# Altium schematic symbol library Emirhan's.SchLib: 66 symbols
Pins are listed as number, name and electrical type; pins without a type are passive.

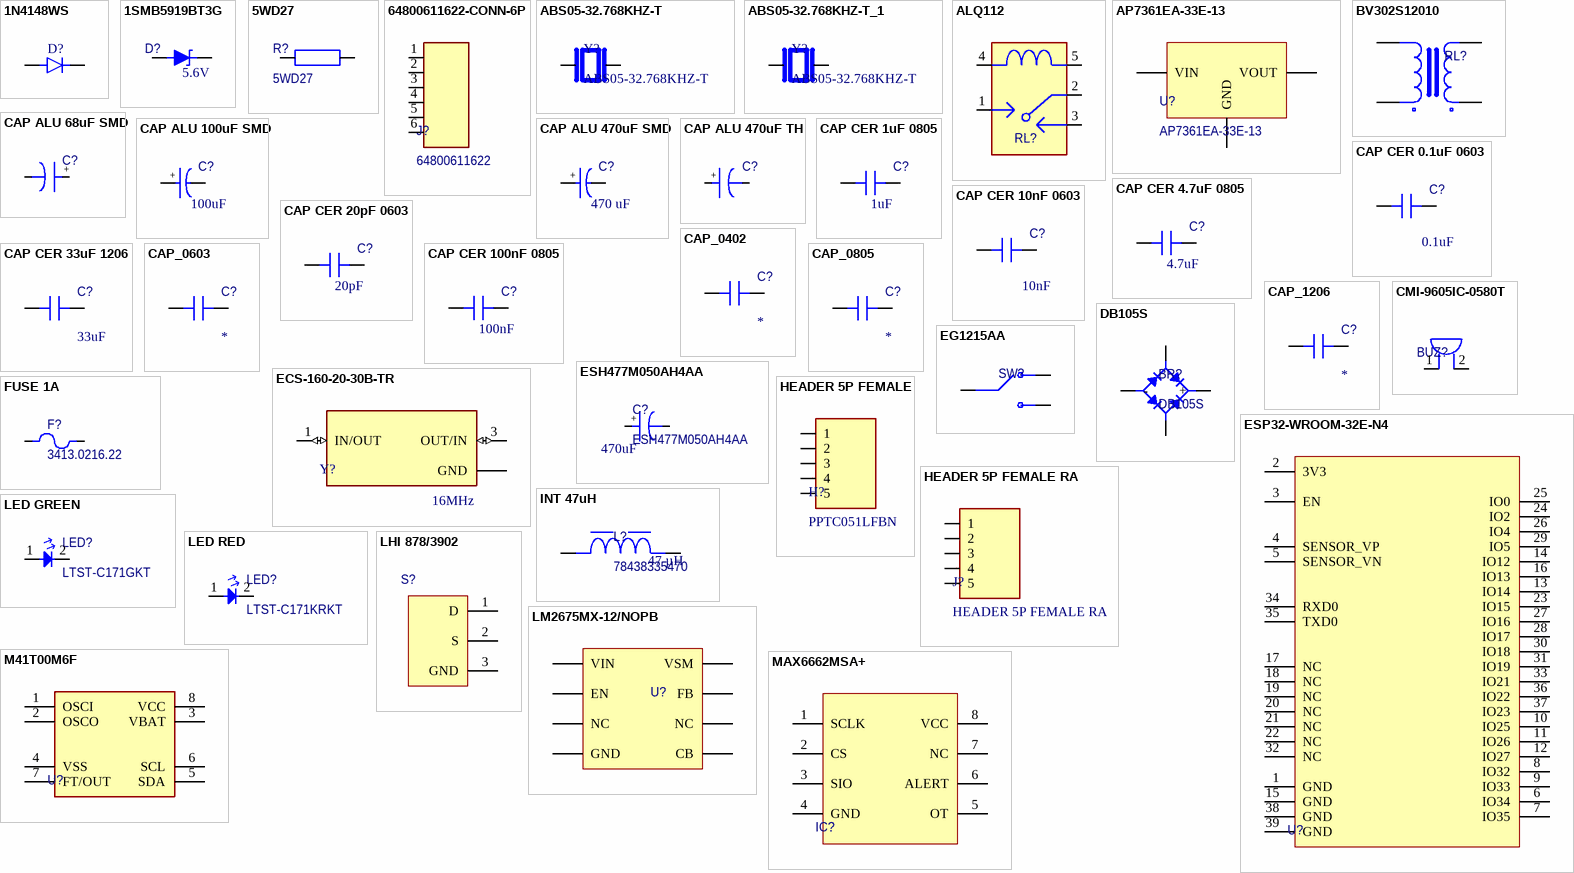
[diagram p0: symbols 1N4148WS to MAX6662MSA+]

## 1N4148WS
designator D?  (value not drawn)
DIODE STANDARD 75V 150MA SOD323F; Manufacturer: Diotec Semiconductor; Designed By: Emirhan Bozkurt; Supplier 1: DigiKey; Case Package: SOD-323F Diotec; Value: *; Supplier Part Number: 1N4148WSFSTR-ND; Check_prices: https://www.snapeda.com/parts/1N4148WS/Diotec/view-part/?ref=eda; Manufacturer Product Number: 1N4148WS
footprint 1N4148WS
pins: A, C

## 1SMB5919BT3G
designator D?  value 5.6V  (hidden comment: 1SMB5919BT3G)
DIODE ZENER 5.6V 3W SMB; Manufacturer: Onsemi; Designed By: Emirhan Bozkurt; Supplier Part Number: 1SMB5919BT3GOSCT-ND; Supplier 1: DigiKey; Mounting Type: Surface Mount; Case Package: SMB; Manufacturer Product Number: 1SMB5919BT3G
footprint 1SMB5919BT3G
pins: 1, 2

## 5WD27
designator R?
RES WIREWOUND 270 Ohm; Manufacturer Product Number: 1SMB5919BT3G; Value: 270 Ohm; Max Power: 5 W; Designed By: Emirhan Bozkurt; Supplier Part Number: 5WD27; Supplier 1: NTE Electronics; Mounting Type: TH
footprint RES_AXIAL_W
pins: 1, 2

## 64800611622-CONN-6P
designator J?, comment 64800611622
WR-WTB WIRE-TO-BOARD CONNECTORS; Manufacturer: WE; Manufacturer Product Number: 1SMB5919BT3G; Pitch: 1.5 mm; Number of Positions: 6; Designed By: Emirhan Bozkurt; Supplier Part Number: 732-64800611622-ND; Supplier 1: DigiKey; Contact Type: Male
footprint 64800611622 (1.50mm Male Vertical Shrouded Header, 6p)
pins: 1, 2, 3, 4, 5, 6

## ABS05-32.768KHZ-T
designator Y?
CRYSTAL 32.7680KHZ 12.5PF SMD; Suppler Part Number: 535-11899-2-ND; Designed By: Emirhan Bozkurt; Supplier 1: DigiKey; Mounting Type: Surface Mount; Series: ABS05; Value: 32.768 kHz; Manufacturer Product Number: ABS05-32.768KHZ-T
footprint XTAL_ABS05-32.768KHZ-T
pins: 1, 2

## ABS05-32.768KHZ-T_1
designator Y?, comment ABS05-32.768KHZ-T
CRYSTAL 32.7680KHZ 12.5PF SMD; Suppler Part Number: 535-11899-2-ND; Designed By: Emirhan Bozkurt; Supplier 1: DigiKey; Mounting Type: Surface Mount; Series: ABS05; Value: 32.768 kHz; Manufacturer Product Number: ABS05-32.768KHZ-T
footprint XTAL_ABS05-32.768KHZ-T
pins: 1, 2

## ALQ112
designator RL?  (value not drawn)
RELAY GEN PURPOSE SPDT 10A 12V; Max Switching Voltage: 250V AC - 30V DC; Designed By: Emirhan Bozkurt; Supplier Part Number: 255-3562-ND; Supplier 1: DigiKey; Current: 10A; Mounting Type: TH; Manufacturer Product Number: ALQ112
footprint ALQ112
pins: 1 COM, 2 NC, 3 NO, 4, 5

## AP7361EA-33E-13
designator U?
LDO CMOS HICURR SOT223 T&R 2.5K; Designed By: Emirhan Bozkurt; Max Input Voltage: 6V; Output Voltage: 3.3V; Current: 1A; Supplier Part Number: 31-AP7361EA-33E-13TR-ND; Supplier 1: DigiKey; Mounting Type: Surface Mount; Case Package: SOT223; Manufacturer Product Number: AP7361EA-33E-13
footprint AP7361EA-33E-13
pins: 1 VIN, 2 GND, 3 VOUT

## BV302S12010
designator RL?  (value not drawn)
230V - 12V PWR XFMR 1VA TH; Designed By: Emirhan Bozkurt; Supplier Part Number: PWR XFMR 1VA TH; Supplier 1: DigiKey; Primary Voltage: 230V; Secondary Voltage: 12V; Operating Frequency: *; Mounting Type: TH; Manufacturer Product Number: BV302S12010
footprint BV302S12010
pins: 1, 5, 7, 9

## CAP ALU 68uF SMD
designator C?, comment EEV686M035A9HAA  (value not drawn)
CAP ALUM 68uF 20% 35V SMD; Manufacturer: KEMET; Designed By: Emirhan Bozkurt; Value: 68uF; Supplier Part Number: 399-6722-1-ND; Supplier 1: DigiKey; Case Package: 0603; Category: Aluminum Electrolytic Capacitors; Mounting Type: Surface Mount; Manufacturer Product Number: EEV686M035A9HAA
footprint CAP_ALU_68uF
pins: 1 A, 2 K
text: +

## CAP ALU 100uF SMD
designator C?, comment value 100uF  (hidden comment: PCR1E101MCL1GS)
CAP ALUM POLY 100uF 20% 25V SMD; Manufacturer: Nichicon; Designed By: Emirhan Bozkurt; Parameter 1: DigiKey; Supplier Part Number: 493-13751-2-ND; Supplier 1: Digi Key; Mounting Type: Surface Mount; Supply Voltage: 25V; Category: Aluminum - Polymer Capacitors; Manufacturer Product Number: PCR1E101MCL1GS
footprint CAP_ALU_470UF_SMD
pins: 1, 2
text: +

## CAP ALU 470uF SMD
designator C?, comment value 470 uF  (hidden comment: PCR1E471MCL1GS)
CAP ALUM POLY 470uF 20% 25V SMD; Manufacturer: Nichicon; Designed By: Emirhan Bozkurt; Parameter 1: DigiKey; Supplier Part Number: 493-13756-2-ND; Supplier 1: Digi Key; Mounting Type: Surface Mount; Supply Voltage: 25V; Category: Aluminum - Polymer Capacitors; Manufacturer Product Number: PCR1E471MCL1GS
footprint CAP_ALU_470UF_SMD
pins: 1, 2
text: +

## CAP ALU 470uF TH
designator C?, comment ESH477M035AH3AA  (value not drawn)
CAP ALUM 470UF 20% 35V RADIAL TH; Manufacturer: KEMET; Manufacturer Product Number: ALA7DA471CF450; Designed By: Emirhan Bozkurt; Value: 470uF; Supplier Part Number: 399-6592-ND; Supplier 1: DigiKey; Size: 10mm; Category: Aluminum Electrolytic Capacitors; Mounting Type: TH
footprint ESH477M035AH3AA
pins: 1 A, 2 K
text: +

## CAP CER 0.1uF 0603
designator C?, comment value 0.1uF  (hidden comment: C0603C104K4RACTU)
CAP CER 0.1uF 16V X7R 0603; Manufacturer: Samsung Electro-Mechanics; Designed By: Emirhan Bozkurt; Supplier Part Number: 399-C0603C104K4RACTUTR-ND; Supplier 1: DigiKey; Case Package: 0603; Mounting Type: Surface Mount; Manufacturer Product Number: C0603C104K4RACTU
footprint CAP_0603
pins: 1, 2

## CAP CER 1uF 0805
designator C?, comment value 1uF  (hidden comment: CL21B105KBFNNNE)
CAP CER 1uF 25V X5R 0805; Manufacturer: Samsung Electro-Mechanics; Designed By: Emirhan Bozkurt; Supplier Part Number: 1276-1029-1-ND; Supplier 1: DigiKey; Case Package: 0805; Mounting Type: Surface Mount; Manufacturer Product Number: CL21B105KBFNNNE
footprint CAP_0805
pins: 1, 2

## CAP CER 4.7uF 0805
designator C?, comment value 4.7uF  (hidden comment: CL21A475KAQNNNE)
CAP CER 4.7uF 25V X5R 0805; Manufacturer: Samsung Electro-Mechanics; Designed By: Emirhan Bozkurt; Supplier Part Number: CL21A475KAQNNNE; Supplier 1: DigiKey; Case Package: 0805; Mounting Type: Surface Mount; Manufacturer Product Number: CL21A475KAQNNNE
footprint CAP_0805
pins: 1, 2

## CAP CER 10nF 0603
designator C?, comment value 10nF  (hidden comment: CL10B102KB8NNNC)
CAP CER 1000pF 50V X7R 0603; Manufacturer: Samsung Electro-Mechanics; Designed By: Emirhan Bozkurt; Supplier Part Number: 1276-1018-1-ND; Supplier 1: DigiKey; Case Package: 0603; Mounting Type: Surface Mount; Manufacturer Product Number: CL10B102KB8NNNC
footprint CAP_0603
pins: 1, 2

## CAP CER 20pF 0603
designator C?, comment value 20pF  (hidden comment: C0603C104K4RACTU)
CAP CER 20pF 50V C0G/NP0 0603; Manufacturer: Samsung Electro-Mechanics; Designed By: Emirhan Bozkurt; Supplier Part Number: 1276-1187-2-ND; Supplier 1: DigiKey; Case Package: 0603; Mounting Type: Surface Mount; Manufacturer Product Number: C0603C104K4RACTU
footprint CAP_0603
pins: 1, 2

## CAP CER 33uF 1206
designator C?, comment value 33uF  (hidden comment: C3216X7S0J336M160AC)
CAP CER 33UF 6.3V X7S 1206; Manufacturer: TDK Corporation; Designed By: Emirhan Bozkurt; Supplier Part Number: 445-14814-2-ND; Supplier 1: DigiKey; Case Package: 1206; Mounting Type: Surface Mount; Manufacturer Product Number: C3216X7S0J336M160AC
footprint CAP_0603
pins: 1, 2

## CAP CER 100nF 0805
designator C?, comment value 100nF  (hidden comment: 1276-1003-2-ND)
CAP CER 0.1uF 50V X7R 0805; Designed By: Emirhan Bozkurt; Supplier Part Number: 1276-1003-2-ND; Supplier 1: DigiKey; Case Package: 0805; Mounting Type: Surface Mount; Manufacturer Product Number: 1276-1003-2-ND
footprint CAP_0805
pins: 1, 2

## CAP_0402
designator C?  (value not drawn)
Designed By: Emirhan Bozkurt; Case Package: 0402; Mounting Type: Surface Mount; Manufacturer Product Number: *; Value: *
footprint CAP_0603
pins: 1, 2

## CAP_0603
designator C?  (value not drawn)
Designed By: Emirhan Bozkurt; Case Package: 0603; Mounting Type: Surface Mount; Manufacturer Product Number: *; Value: *
footprint CAP_0603
pins: 1, 2

## CAP_0805
designator C?  (value not drawn)
Designed By: Emirhan Bozkurt; Case Package: 0805; Mounting Type: Surface Mount; Manufacturer Product Number: *; Value: *
footprint CAP_0805
pins: 1, 2

## CAP_1206
designator C?  (value not drawn)
Designed By: Emirhan Bozkurt; Case Package: 1206; Mounting Type: Surface Mount; Manufacturer Product Number: *; Value: *
footprint CAP_0603
pins: 1, 2

## CMI-9605IC-0580T
designator BUZ?  (value not drawn)
BUZZER MAGNETIC 5V 9.6MM TH; Max Supply Voltage: 7V; Min Supply Voltage: 3V; Designed By: Emirhan Bozkurt; Supplier Part Number: 2223-CMI-9605IC-0580T-ND; Supplier 1: DigiKey; Mounting Type: TH; Size: 9.6mm; Case Package: CMI-9605IC; Manufacturer Product Number: CMI-9605IC-0580T
footprint CMI-9605IC-0580T
pins: 1, 2

## DB105S
designator BR?
BRIDGE RECT 1PHASE 600V 1A DB-S; Designed By: Emirhan Bozkurt; Supplier Part Number: 1655-DB105STR-ND; Supplier 1: DigiKey; Max Supply Voltage: 600V; Current: 1A; Mounting Type: Surface Mount; Case Package: DB-S; Manufacturer Product Number: DB105S
footprint DB105S
pins: 1, 2, 3 +, 4 -

## ECS-160-20-30B-TR
designator Y?  value 16MHz  (hidden comment: ECS-160-20-30B-TR)
CRYSTAL 16.0000MHZ 20PF SMD; Designed By: Emirhan Bozkurt; Supplier 1: DigiKey; Supplier Part Number: XC1120TR-ND; Series: ECX-53B; Manufacturer Product Number: ECS-160-20-30B-TR
footprint XTAL_ECS-160-20-30B-TR
pins: 1 IN/OUT (io), 2 GND (power), 3 OUT/IN (io), 4 GND (power)

## EG1215AA
designator SW?  (value not drawn)
SWITCH SLIDE SPDT 25MA 24V; Designed By: Emirhan Bozkurt; Supplier Part Number: EG5720TR-ND; Supplier 1: DigiKey; Max Supply Voltage: 24V; Current: 25mA; Mounting Type: Surface Mount; Manufacturer Product Number: EG1215AA
footprint EG1215AA
pins: 1, 2, 3

## ESH477M050AH4AA
designator C?  value 470uF
CAP ALUM 470UF 20% 50V RADIAL TH; Manufacturer: KEMET; Designed By: Emirhan Bozkurt; Supplier Part Number: 399-15683-ND; Supplier 1: Digi Key; Max Supply Voltage: 50V; Operating Temperature: -40°C ~ 105°C; Mounting Type: TH; Manufacturer Product Number: ESH477M050AH4AA
footprint CAP_RAD_D10_P5
pins: 1, 2
text: +

## ESP32-WROOM-32E-N4
designator U?  (value not drawn)
RF TXRX MOD BT WIFI TH SMD; Supply Voltage Nominal: 3V3; Designed By: Emirhan Bozkurt; Frequency: 2.4GHz ~ 2.5GHz; Supplier Part Number: 1965-ESP32-WROOM-32E-N4TR-ND; Max Operating Temperature: 85 °C; Min Operating Temperature: -45 °C; ComponentLink1Description: Datasheet; ComponentLink1URL: https://www.espressif.com/sites/default/files/documentation/esp32-wroom-32e_esp32-wroom-32ue_datasheet_en.pdf; Supplier 1: DigiKey; Manufacturer Product Number: ESP32-WROOM-32E-N4
footprint ESP32-WROOM-32E
pins: 1 GND, 2 3V3, 3 EN, 4 SENSOR_VP, 5 SENSOR_VN, 6 IO34, 7 IO35, 8 IO32, 9 IO33, 10 IO25, 11 IO26, 12 IO27, 13 IO14, 14 IO12, 15 GND, 16 IO13, 17 NC, 18 NC, 19 NC, 20 NC, 21 NC, 22 NC, 23 IO15, 24 IO2, 25 IO0, 26 IO4, 27 IO16, 28 IO17, 29 IO5, 30 IO18, 31 IO19, 32 NC, 33 IO21, 34 RXD0, 35 TXD0, 36 IO22, 37 IO23, 38 GND, 39 GND

## FUSE 1A
designator F?, comment 3413.0216.22
FUSE BRD MNT 1A 32VAC 63VDC 1206; Voltage DC: 63V; Designed By: Emirhan Bozkurt; Supplier Part Number: 486-1144-2-ND; Supplier 1: Digi Key; Mounting Type: Surface Mount; Current: 1A; Manufacturer Product Number: 3413.0216.22
footprint FUSE 1A
pins: 1, 2

## HEADER 5P FEMALE
designator H?, comment PPTC051LFBN
CONN HDR 5POS 0.1 TIN PCB; Manufacturer: Sullins Connector Solutions; Manufacturer Product Number: PPTC051LFBN-RC; Designed By: Emirhan Bozkurt; Number of Positions: 5; Supplier 1: DigiKey; Supplier Part Number: S6103-ND; Mounting Type: Surface Mount, Right Angle; Through Hole; Contact Type: Female Socket
footprint HDR_5_POS_CONN
pins: 1, 2, 3, 4, 5

## HEADER 5P FEMALE RA
designator J?
CONN RCPT 5POS 0.1 GOLD SMD R/A; Manufacturer: Samtec; Manufacturer Product Number: SMH-105-02-L-S; Number of Positions: 5; Supplier 1: DigiKey; Supplier Part Number: SMH-105-02-L-S; Package: None
footprint HDR_5_POS_CONN_RA
pins: 1, 2, 3, 4, 5

## INT 47uH
designator L?, comment 78438335470  value 47 µH
FIXED IND 47UH 390MA 2.3 OHM SMD; Supply  Part Number: 732-6947-2-ND; Manufacturer: Würth; Designed By: Emirhan Bozkurt; Supplier 1: DigiKey; Manufacturer Product Number: 78438335470
footprint INT_47uL
pins: 1, 2

## LED GREEN
designator LED?, comment LTST-C171GKT
LED GREEN CLEAR SMD; Manufacturer: Lite-On Inc.; Designed By: Emirhan Bozkurt; Supplier Part Number: 160-1423-2-ND; Supplier 1: DigiKey; Color: Green; Manufacturer Product Number: LTST-C171GKT
footprint LED GREEN 0805
pins: 1, 2

## LED RED
designator LED?, comment LTST-C171KRKT
LED RED CLEAR SMD; Manufacturer: Lite-On Inc.; Manufacturer Product Number: LTST-C171KRKsT; Designed By: Emirhan Bozkurt; Supplier Part Number: 160-1427-2-ND; Supplier 1: DigiKey; Color: Red
footprint LED RED 0805
pins: 1, 2

## LHI 878/3902
designator S?  (value not drawn)
SENSOR PYRO DETECTOR DUAL MOTION; Designed By: Emirhan Bozkurt; Max Supply Voltage: 12V; Min Supply Voltage: 2V; Supplier Part Number: 1601-LHI878/3902-ND; Supplier 1: DigiKey; Mounting Type: TH; Manufacturer Product Number: LHI 878/3902
footprint LHI 878
pins: 1 D, 2 S, 3 GND

## LM2675MX-12/NOPB
designator U?  (value not drawn)
IC REG BUCK 12V 1A SOIC-8; Designed By: Emirhan Bozkurt; Max Input Voltage: 40V; Min Input Voltage: 6.5V; Supplier Part Number: 296-35410-2-ND; Supplier 1: DigiKey; Current: 1A; Mounting Type: Surface Mount; Case Package: SOIC-8; Manufacturer Product Number: LM2675MX-12/NOPB
footprint LM2675MX-12/NOPB
pins: 1 CB, 2 NC, 3 NC, 4 FB, 5 EN, 6 GND, 7 VIN, 8 VSM

## M41T00M6F
designator U?  (value not drawn)
IC RTC CLK/CALENDAR I2C 8SOIC; Voltage - Supply: 2V ~ 5.5V; Current: 70µA; Designed By: Emirhan BOZKURT; Supplier Part Number: 497-4697-2-ND; Package/Case: 8-SOIC; Mounting Type: Surface Mount; Supplier 1: DigiKey; Case Package: SOIC-8; Manufacturer Product Number: M41T00M6F
footprint SOIC-8
pins: 1 OSCI, 2 OSCO, 3 VBAT, 4 VSS, 5 SDA, 6 SCL, 7 FT/OUT, 8 VCC

## MAX6662MSA+
designator IC?  (value not drawn)
TEMPERATURE SENSOR DIGITAL REMOTE 8SOIC; Designed By: Emirhan Bozkurt; Supplier Part Number: MAX6662MSA+-ND; Supplier 1: DigiKey; Max Operating Temperature: +150; Min Operating Temperature: -55; Case Package: SOIC-8; Manufacturer Product Number: MAX6662MSA+
footprint SOIC-8
pins: 1 SCLK, 2 CS, 3 SIO, 4 GND, 5 OT, 6 ALERT, 7 NC, 8 VCC

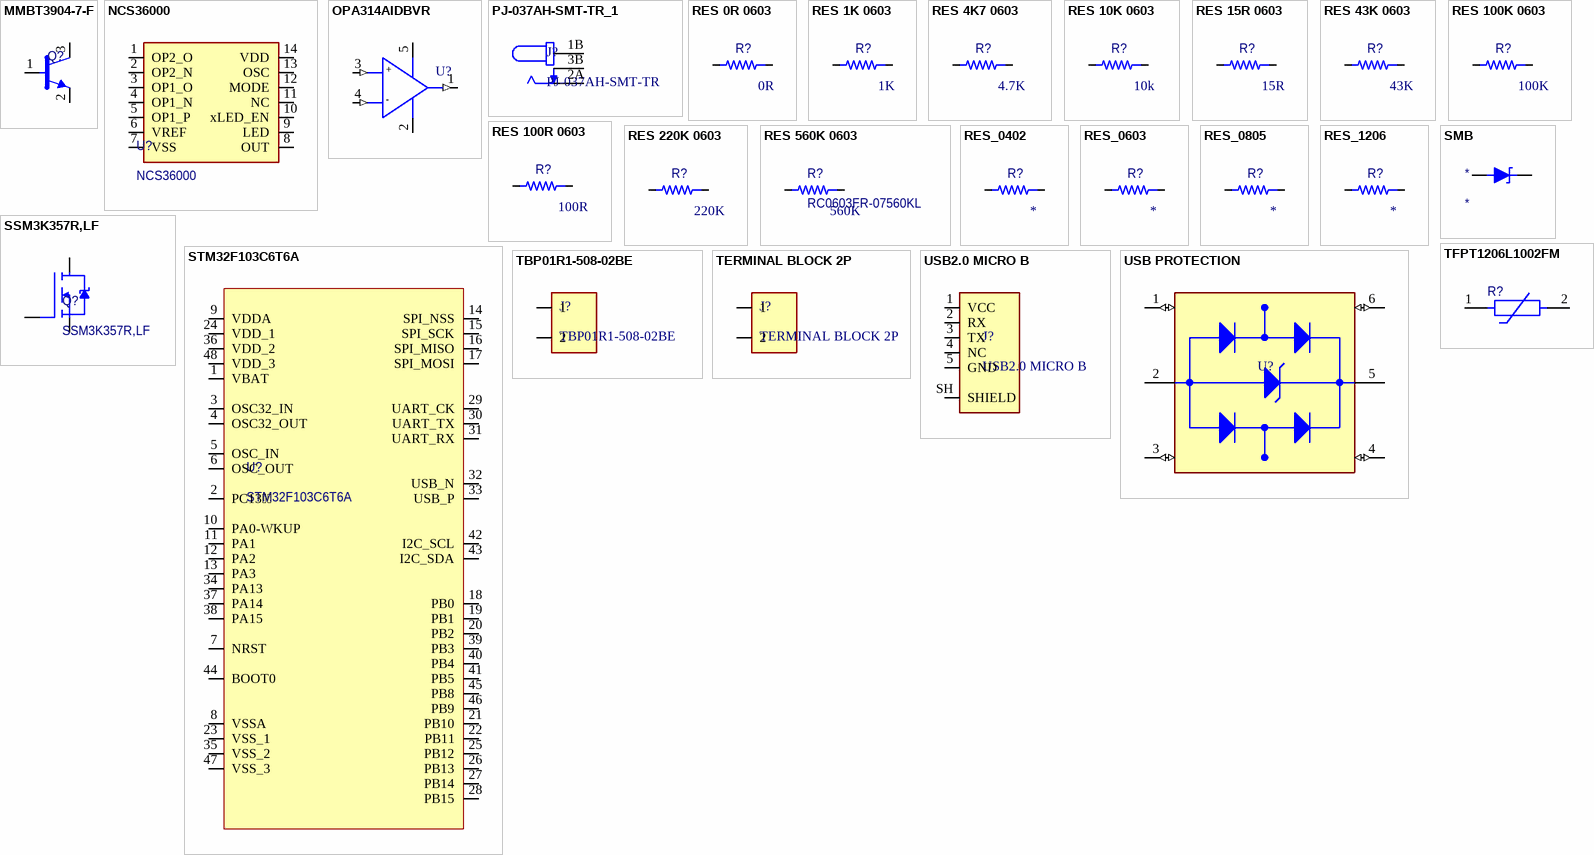
[diagram p1: symbols MMBT3904-7-F to USB PROTECTION]

## MMBT3904-7-F
designator Q?  (value not drawn)
TRANS NPN 40V 0.2A SOT-23-3; Parameter 1: Surface Mount; Supplier Part Number: MMBT3904-FDICT-ND; Supplier 1: DigiKey; ComponentLink1Description: Datasheet; ComponentLink1URL: https://www.digikey.com/en/products/detail/toshiba-semiconductor-and-storage/SSM3K357R-LF/8611159; FET Type: NPN; Voltage - Collector Emitter: 40V; Case Package: SOT-23-3; Manufacturer Product Number: MMBT3904-7-F
footprint SOT-23F
pins: 1 B, 2 E, 3 C

## NCS36000
designator U?
IC PIR DETECTOR CTLR 14SOIC; Manufacturer: Onsemi; Manufacturer Product Number: NCS36000DRG; Designed By: Emirhan Bozkurt; Supplier Part Number: NCS36000DRGOSCT-ND; Supplier 1: DigiKey; ComponentLink1Description: Datasheet; ComponentLink1URL: https://www.onsemi.com/pdf/datasheet/ncs36000-d.pdf; Case Package: SOIC-14
footprint NCS36000
pins: 1 OP2_O, 2 OP2_N, 3 OP1_O, 4 OP1_N, 5 OP1_P, 6 VREF, 7 VSS, 8 OUT, 9 LED, 10 xLED_EN, 11 NC, 12 MODE, 13 OSC, 14 VDD

## OPA314AIDBVR
designator U?  (value not drawn)
IC OPAMP GP 1 CIRCUIT SOT23-5; Manufacturer: Texas Instruments; Designed By: Emirhan Bozkurt; Supplier Part Number: 296-36699-1-ND; Supplier 1: DigiKey; Case Package: SOT-23-5 Texas Instruments; Mounting Type: Surface Mount; Manufacturer Product Number: OPA314AIDBVR
footprint OPA314
pins: 1 OUT (out), 2 V- (power), 3 +IN (in), 4 -IN (in), 5 V+ (power)
text: +; -

## PJ-037AH-SMT-TR_1
designator J?, comment PJ-037AH-SMT-TR
CONN PWR JACK 2X5.5MM SOLDER; Manufacturer: Same Sky; Designed By: Emirhan Bozkurt; Supply Voltage: 24VDC; Supplier 1: DigiKey; Supplier Part Number: PJ-037AH-SMT-TR; Mounting Type: Surface Mount, Right Angle; Through Hole; Manufacturer Product Number: PJ-037AH-SMT-TR
footprint PJ-037AH-SMT-TR
pins: 1A 1, 1B 1, 2A 2, 2B 2, 3A 3, 3B 3

## RES 0R 0603
designator R?, comment value 0R  (hidden comment: CR160000F)
RES 0 OHM 1% 1/10W 0603; Suppier Part Number: 2997-CR160000FTR-ND; Manufacturer: YAGEO; Designed By: Emirhan Bozkurt; Supplier 1: DigiKey; Case Package: 0603; Mounting Type: Surface Mount; Category: Chip Resistor; Manufacturer Product Number: CR160000F
footprint RES_0603
pins: 1, 2

## RES 1K 0603
designator R?, comment value 1K  (hidden comment: RC0603FR-071KL)
RES 1K 1% 1/10W 0603; Suppier Part Number: 311-1.00KHRCT-ND; Manufacturer: YAGEO; Designed By: Emirhan Bozkurt; Supplier 1: DigiKey; Case Package: 0603; Mounting Type: Surface Mount; Category: Chip Resistor; Manufacturer Product Number: RC0603FR-071KL
footprint RES_0603
pins: 1, 2

## RES 4K7 0603
designator R?, comment value 4.7K  (hidden comment: RC0603FR-074K7L)
RES 4K7 OHM 1% 1/10W 0603; Suppier Part Number: 311-4.70KHRCT-ND; Manufacturer: YAGEO; Designed By: Emirhan Bozkurt; Supplier 1: DigiKey; Case Package: 0603; Mounting Type: Surface Mount; Category: Chip Resistor; Manufacturer Product Number: RC0603FR-074K7L
footprint RES_0603
pins: 1, 2

## RES 10K 0603
designator R?, comment value 10k  (hidden comment: RC0603FR-0710KL)
RES 10K OHM 1% 1/10W 0603; Suppier Part Number: 311-10.0KHRTR-ND; Manufacturer: YAGEO; Designed By: Emirhan Bozkurt; Supplier 1: DigiKey; Case Package: 0603; Mounting Type: Surface Mount; Category: Chip Resistor; Manufacturer Product Number: RC0603FR-0710KL
footprint RES_0603
pins: 1, 2

## RES 15R 0603
designator R?, comment value 15R  (hidden comment: RC0603FR-0715RL)
RES 15 OHM 1% 1/10W 0603; Suppier Part Number: 311-15.0HRTR-ND; Manufacturer: YAGEO; Designed By: Emirhan Bozkurt; Supplier 1: DigiKey; Case Package: 0603; Mounting Type: Surface Mount; Category: Chip Resistor; Manufacturer Product Number: RC0603FR-0715RL
footprint RES_0603
pins: 1, 2

## RES 43K 0603
designator R?, comment value 43K  (hidden comment: RC0603FR-0743KL)
RES 43K OHM 1% 1/10W 0603; Suppier Part Number: 311-43.0KHRTR-ND; Manufacturer: YAGEO; Designed By: Emirhan Bozkurt; Supplier 1: DigiKey; Case Package: 0603; Mounting Type: Surface Mount; Category: Chip Resistor; Manufacturer Product Number: RC0603FR-0743KL
footprint RES_0603
pins: 1, 2

## RES 100K 0603
designator R?, comment value 100K  (hidden comment: RC0603FR-07100KL)
RES 100K OHM 1% 1/10W 0603; Suppier Part Number: 311-100KHRCT-ND; Manufacturer: YAGEO; Designed By: Emirhan Bozkurt; Supplier 1: DigiKey; Case Package: 0603; Mounting Type: Surface Mount; Category: Chip Resistor; Manufacturer Product Number: RC0603FR-07100KL
footprint RES_0603
pins: 1, 2

## RES 100R 0603
designator R?, comment value 100R  (hidden comment: RC0603FR-07100RL)
RES 100 OHM 1% 1/10W 0603; Suppier Part Number: 311-100HRTR-ND; Manufacturer: YAGEO; Designed By: Emirhan Bozkurt; Supplier 1: DigiKey; Case Package: 0603; Mounting Type: Surface Mount; Category: Chip Resistor; Manufacturer Product Number: RC0603FR-07100RL
footprint RES_0603
pins: 1, 2

## RES 220K 0603
designator R?, comment value 220K  (hidden comment: RC0603FR-07220KL)
RES 220K OHM 1% 1/10W 0603; Suppier Part Number: 311-220KHRTR-ND; Manufacturer: YAGEO; Designed By: Emirhan Bozkurt; Supplier 1: DigiKey; Case Package: 0603; Mounting Type: Surface Mount; Category: Chip Resistor; Manufacturer Product Number: RC0603FR-07220KL
footprint RES_0603
pins: 1, 2

## RES 560K 0603
designator R?, comment RC0603FR-07560KL  value 560K
RES 1560K 1% 1/10W 0603; Suppier Part Number: 311-560KHRCT-ND; Manufacturer: YAGEO; Designed By: Emirhan Bozkurt; Supplier 1: DigiKey; Case Package: 0603; Mounting Type: Surface Mount; Category: Chip Resistor; Manufacturer Product Number: RC0603FR-07560KL
footprint RES_0603
pins: 1, 2

## RES_0402
designator R?  (value not drawn)
RES 0402; Manufacturer: YAGEO; Designed By: Emirhan Bozkurt; Supplier 1: DigiKey; Case Package: 0402; Mounting Type: Surface Mount; Category: Chip Resistor; Manufacturer Product Number: *; Value: *
footprint RES_0402
pins: 1, 2

## RES_0603
designator R?  (value not drawn)
RES 0603; Manufacturer: YAGEO; Designed By: Emirhan Bozkurt; Supplier 1: DigiKey; Case Package: 0603; Mounting Type: Surface Mount; Category: Chip Resistor; Manufacturer Product Number: *; Value: *
footprint RES_0603
pins: 1, 2

## RES_0805
designator R?  (value not drawn)
RES 0805; Manufacturer: YAGEO; Designed By: Emirhan Bozkurt; Supplier 1: DigiKey; Case Package: 0805; Mounting Type: Surface Mount; Category: Chip Resistor; Manufacturer Product Number: *; Value: *
footprint RES_0805
pins: 1, 2

## RES_1206
designator R?  (value not drawn)
RES 1206; Manufacturer: YAGEO; Designed By: Emirhan Bozkurt; Supplier 1: DigiKey; Case Package: 1206; Mounting Type: Surface Mount; Category: Chip Resistor; Manufacturer Product Number: *; Value: *
footprint RES_1206
pins: 1, 2

## SMB
designator *
Manufacturer Product Number: *
footprint 1SMB5919BT3G
pins: 1, 2

## SSM3K357R,LF
designator Q?
MOSFET N-CH 60V 650MA SOT23F; FET Type: N-Channel; Designed By: Emirhan Bozkurt; Supplier Part Number: SSM3K357RLFTR-ND; Supplier 1: DigiKey; ComponentLink1Description: Datasheet; ComponentLink1URL: https://www.digikey.com/en/products/detail/toshiba-semiconductor-and-storage/SSM3K357R-LF/8611159; Mounting Type: Surface Mount; Drain - Source Voltage: 60V; Case Package: SOT-23F; Manufacturer Product Number: SSM3K357R,LF
footprint SSM3K357R,LF
pins: 1 G, 2 S, 3 D

## STM32F103C6T6A
designator U?
IC MCU 32BIT 32KB FLASH 48LQFP; Voltage: 2V ~ 3.6V; Designed By: Emirhan Bozkurt; Supplier Part Number: 497-11515-ND; Supplier 1: DigiKey; Case Package: 48-LQFP; Mounting Type: Surface Mount; ComponentLink1Description: Datasheet; ComponentLink1URL: https://www.st.com/content/ccc/resource/technical/document/datasheet/0d/93/e0/d7/77/bf/4c/54/CD00210843.pdf/files/CD00210843.pdf/jcr:content/translations/en.CD00210843.pdf; Manufacturer Product Number: STM32F103C6T6A
footprint LQFP-48 (7mm x 7mm)
pins: 1 VBAT, 2 PC13, 3 OSC32_IN, 4 OSC32_OUT, 5 OSC_IN, 6 OSC_OUT, 7 NRST, 8 VSSA, 9 VDDA, 10 PA0-WKUP, 11 PA1, 12 PA2, 13 PA3, 14 SPI_NSS, 15 SPI_SCK, 16 SPI_MISO, 17 SPI_MOSI, 18 PB0, 19 PB1, 20 PB2, 21 PB10, 22 PB11, 23 VSS_1, 24 VDD_1, 25 PB12, 26 PB13, 27 PB14, 28 PB15, 29 UART_CK, 30 UART_TX, 31 UART_RX, 32 USB_N, 33 USB_P, 34 PA13, 35 VSS_2, 36 VDD_2, 37 PA14, 38 PA15, 39 PB3, 40 PB4, 41 PB5, 42 I2C_SCL, 43 I2C_SDA, 44 BOOT0, 45 PB8, 46 PB9, 47 VSS_3, 48 VDD_3

## TBP01R1-508-02BE
designator J?
TERMINAL BLOCK, PLUGGABLE, 5.08,; Manufacturer: Same Sky; Designed By: Emirhan Bozkurt; Number of Positions: 2; Supplier 1: DigiKey; Supplier Part Number: 102-6406-ND; Mounting Type: Surface Mount, Right Angle; Through Hole; Manufacturer Product Number: TBP01R1-508-02BE
footprint TBP01R1-508
pins: 1, 2

## TERMINAL BLOCK 2P
designator J?
Designed By: Emirhan Bozkurt; Number of Positions: 2; Mounting Type: Surface Mount, Right Angle; Through Hole; Manufacturer Product Number: *
footprint TBP01R1-508
pins: 1, 2

## TFPT1206L1002FM
designator R?  (value not drawn)
SENSOR PTC 10KOHM 1% 1206; Designed By: Emirhan Bozkurt; Value: 10k; Supplier Part Number: 541-3533-2-ND; Supplier 1: DigiKey; Case Package: 1206; Min Operating Temperature: -55; Max Operating Temperature: +70; Manufacturer Product Number: TFPT1206L1002FM
footprint PTC_1206
pins: 1, 2

## USB2.0 MICRO B
designator J?
CONN RCPT USB2.0 MICRO B SMD R/A; Manufacturer: Amphenol ICC; Manufacturer Product Number: 10118192-0001LF; Designed By: Emirhan Bozkurt; Connector Type: USB - micro B; Supplier Part Number: 609-4613-2-ND; Mounting Type: Surface Mount, Right Angle; Supplier 1: DigiKey
footprint USB2.0 MICRO B
pins: 1 VCC, 2 RX, 3 TX, 4 NC, 5 GND, SH SHIELD

## USB PROTECTION
designator U?, comment USBLC6-2SC6  (value not drawn)
TVS DIODE 5.25VWM 17VC SOT23-6; Manufacturer: STMicroelectronics; Designed By: Emirhan Bozkurt; Supplier 1: DigiKey; Case Package: SOT-23-6 STMicroelectronics; Supplier Part Number: 497-5235-2-ND; Manufacturer Product Number: USBLC6-2SC6
footprint SOT95P280X145-6N
pins: 1 I/O1_IN (io), 2 GND (power), 3 I/O2_IN (io), 4 I/O2_OUT (io), 5 VBUS (power), 6 I/O1_OUT (io)